# Altium footprint library SlotCarController.PcbLib: 3 footprints
Each footprint in its own frame and in the unit in brackets; x right, y up, seen from the top. Pads: shape width x height; smd on the part's side, far side on the other; paste and mask are expansions set on the pad; w line width, h text height; cw(c..) or ccw(c..) is an arc to the next point about the centre after c.
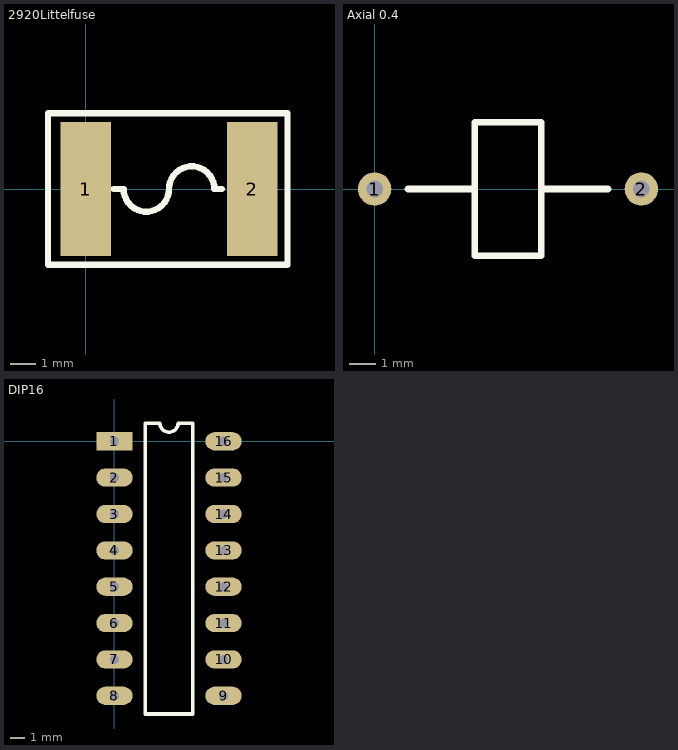
[diagram p0: the footprints below, top view; thin cyan lines are the x and y axes]

## 2920Littelfuse [mm] "SMD self resetting thermal fuse"
height 1
pads (2):
  rect 2x5.3 smd: 1(0,0) 2(6.6,0)
Top Overlay:
  lines w0.254: 1.1,0 1.5,0 ccw(c2.4,0) 3.3,0 cw(c4.2,0) 5.1,0 5.4,0 ; -1.5,-3 -1.5,3 8,3 8,-3 -1.5,-3

## Axial 0.4 [mil]
pads (2):
  round 50 hole 25: 1(0,0) 2(400,0)
Top Overlay:
  lines w10: 50,0 150,0 ; 250,0 350,0 ; 150,0 150,-100 250,-100 250,100 150,100 150,0

## DIP16 [mil]
pads (16):
  rect 100x50 hole 25: 1(0,0)
  oval 100x50 hole 25: 2(0,-100) 3(0,-200) 4(0,-300) 5(0,-400) 6(0,-500) 7(0,-600) 8(0,-700) 9(300,-700) 10(300,-600) 11(300,-500) 12(300,-400) 13(300,-300) 14(300,-200) 15(300,-100) 16(300,0)
Top Overlay:
  lines w10: 85,-750 85,50 125,50 ccw(c150,50) 175,50 215,50 215,-750 85,-750